# Altium schematic symbol library PDU.SchLib: 91 symbols (part 10 of 11)
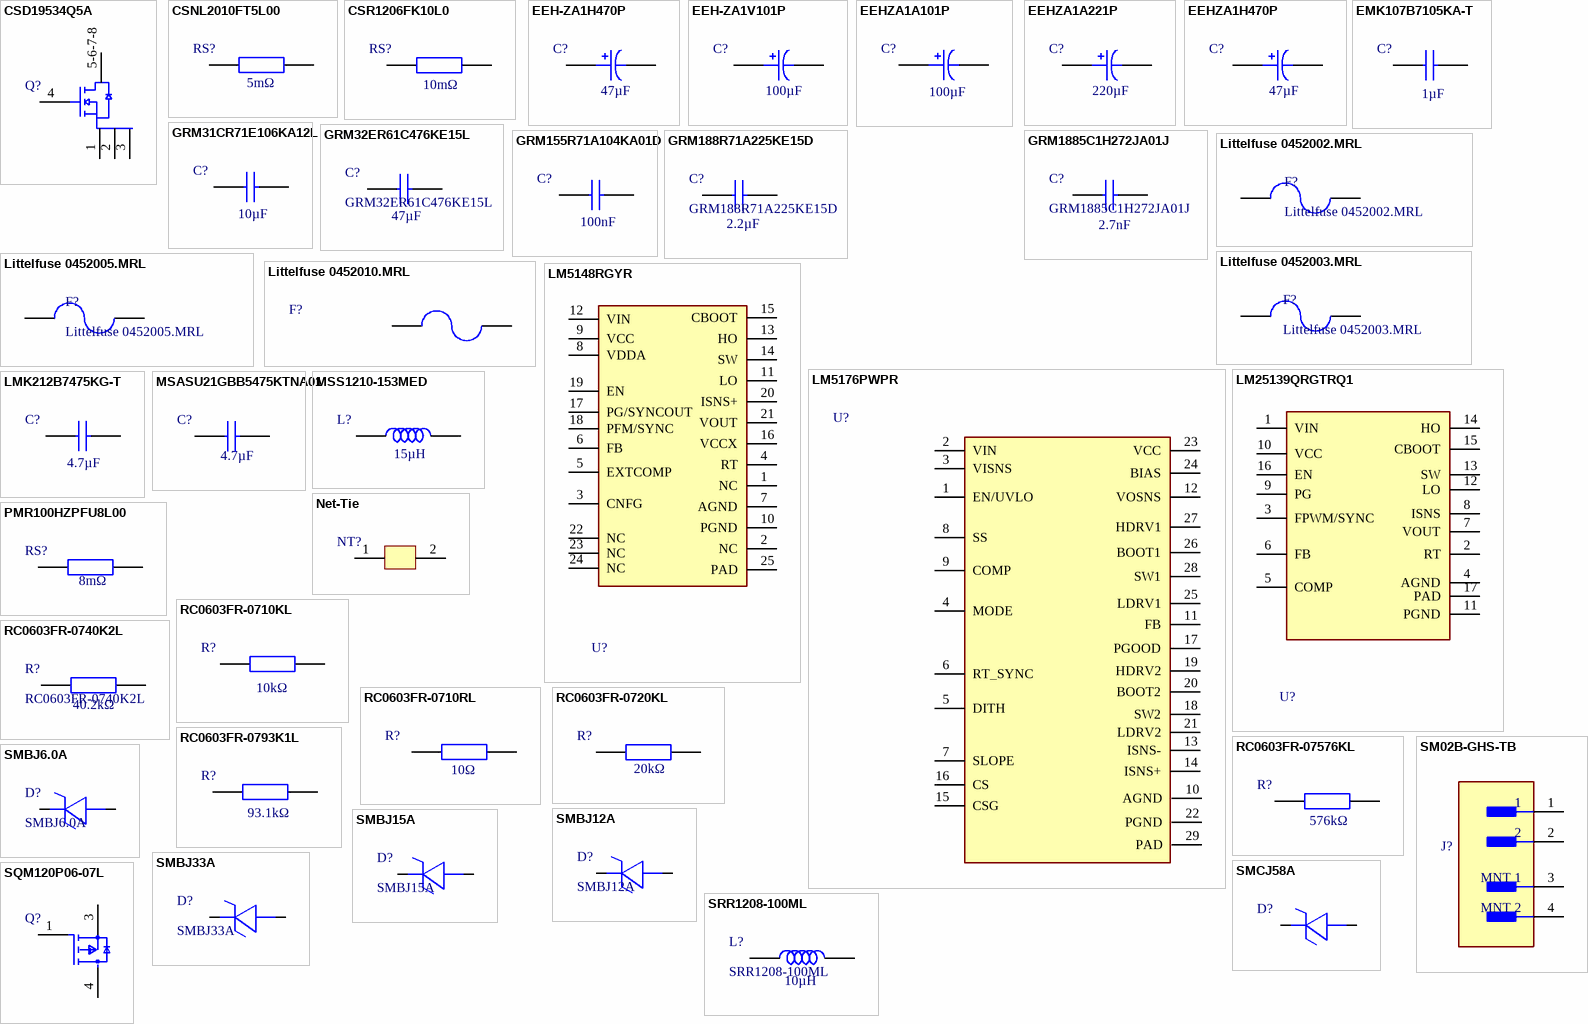
[diagram p11: symbols CSD19534Q5A to SRR1208-100ML]

## SMBJ12A
designator D?
SMBJ Series 19.9 V 0.6 kW Surface Mount Uni-Directional TVS Diode - DO-214AA; Manufacturer: Littelfuse; Breakdown Voltage: 14V; Clamping Voltage: 19.9V; Direction: Unidirectional; Element Configuration: Single; ESD Protection: Yes; Forward Voltage: 3.5V; Leakage Current: 1µA; Max Breakdown Voltage: 14.7V; Max Junction Temperature (Tj): 150°C; Max Power Dissipation: 5W; Max Surge Current: 30.2A; Min Breakdown Voltage: 13.3V; Number of Channels: 1; Operating Supply Voltage: 12V; Peak Pulse Power: 600W; Power Line Protection: No; Test Current: 1mA; Supplier: Farnell; Supplier Part Number: SMBJ12A; Manufacturer Part Number: SMBJ12A; RoHS: Compliant; Category: TVS Diodes; Stock: 3078; Pricing: 5=0,285, 10=0,191, 100=0,168, 500=0,145, 1000=0,122, 5000=0,0993 (EUR); Case/Package: SMB; China RoHS: Non-Compliant; Composition: Zener; Country of Origin: Mainland China, Philippines; Export Control Classification Number (ECCN) Code: EAR99; Height: 2.61mm; Harmonized Tariff Schedule (HTS) Code: 8541.10.00.50; Introduction Date: 1996-01-01; Lead Free: Lead Free; Length: 4.5466mm; Lifecycle Status: Production; Max Operating Temperature: 150°C; Max Reverse Leakage Current: 1µA; Min Operating Temperature: -65°C; Mounting Technology: Surface Mount; Number of Elements: 1; Pins: 2; Number of Terminals: 2; Number of Unidirectional Channels: 1; Packaging: Cut Tape; Peak Pulse Current: 30.2A; Peak Reverse Current: 1µA; Polarity: Unidirectional; Power Rating: 600W; Radiation Hardening: No; REACH SVHC: No; Reverse Breakdown Voltage: 13.3V; Reverse Standoff Voltage: 12V; Reverse Voltage: 12V; Schedule B: 8541100080, 8541100080|8541100080|8541100080|8541100080|8541100080|8541100080|8541100080|8541100080|8541100080|8541100080|8541100080|8541100080|8541100080|8541100080|8541100080|8541100080|8541100080|8541100080|8541100080|8541100080|8541100080|8541100080|8541100080|85; Termination: SMD/SMT; Voltage Rating (DC): 12V; Width: 3.937mm; ComponentLink1URL: https://datasheet.octopart.com:443/SMBJ12A-Littelfuse-datasheet-180609570.pdf?src-supplier=IHS; ComponentLink1Description: https://datasheet.octopart.com:443/SMBJ12A-Littelfuse-datasheet-180609570.pdf?src-supplier=IHS; ComponentLink2URL: https://datasheet.octopart.com:443/SMBJ12A-Littelfuse-datasheet-98958142.pdf?src-supplier=Burklin+Elektronik; ComponentLink2Description: https://datasheet.octopart.com:443/SMBJ12A-Littelfuse-datasheet-98958142.pdf?src-supplier=Burklin+Elektronik; ComponentLink3URL: https://datasheet.octopart.com:443/SMBJ12A-Littelfuse-datasheet-46975802.pdf?src-supplier=Burklin+Elektronik; ComponentLink3Description: https://datasheet.octopart.com:443/SMBJ12A-Littelfuse-datasheet-46975802.pdf?src-supplier=Burklin+Elektronik; ComponentLink4URL: https://datasheet.octopart.com:443/SMBJ12A-Littelfuse-datasheet-10854588.pdf?src-supplier=element14+APAC; ComponentLink4Description: https://datasheet.octopart.com:443/SMBJ12A-Littelfuse-datasheet-10854588.pdf?src-supplier=element14+APAC; ComponentLink5URL: https://datasheet.octopart.com:443/SMBJ12A-Littelfuse-datasheet-63710821.pdf?src-supplier=element14+APAC; ComponentLink5Description: https://datasheet.octopart.com:443/SMBJ12A-Littelfuse-datasheet-63710821.pdf?src-supplier=element14+APAC; ComponentLink6URL: https://datasheet.octopart.com:443/SMBJ12A-Littelfuse-datasheet-5319440.pdf?src-supplier=element14+APAC; ComponentLink6Description: https://datasheet.octopart.com:443/SMBJ12A-Littelfuse-datasheet-5319440.pdf?src-supplier=element14+APAC; ComponentLink7URL: https://datasheet.octopart.com:443/SMBJ12A-Littelfuse-datasheet-145017494.pdf?src-supplier=Farnell; ComponentLink7Description: https://datasheet.octopart.com:443/SMBJ12A-Littelfuse-datasheet-145017494.pdf?src-supplier=Farnell; ComponentLink8URL: https://datasheet.octopart.com:443/SMBJ12A-Littelfuse-datasheet-123574.pdf?src-supplier=Farnell; ComponentLink8Description: https://datasheet.octopart.com:443/SMBJ12A-Littelfuse-datasheet-123574.pdf?src-supplier=Farnell; ComponentLink9URL: https://datasheet.octopart.com:443/SMBJ12A-Littelfuse-datasheet-871.pdf?src-supplier=DigiKey; ComponentLink9Description: https://datasheet.octopart.com:443/SMBJ12A-Littelfuse-datasheet-871.pdf?src-supplier=DigiKey; ComponentLink10URL: https://datasheet.octopart.com:443/SMBJ12A-Littelfuse-datasheet-170904961.pdf?src-supplier=Future+Electronics; ComponentLink10Description: https://datasheet.octopart.com:443/SMBJ12A-Littelfuse-datasheet-170904961.pdf?src-supplier=Future+Electronics; ComponentLink11URL: https://datasheet.octopart.com:443/SMBJ12A-Littelfuse-datasheet-27889791.pdf?src-supplier=Fuses+Unlimited; ComponentLink11Description: https://datasheet.octopart.com:443/SMBJ12A-Littelfuse-datasheet-27889791.pdf?src-supplier=Fuses+Unlimited; ComponentLink12URL: https://datasheet.octopart.com:443/SMBJ12A-Littelfuse-datasheet-9813940.pdf?src-supplier=RS+(Formerly+Allied+Electronics); ComponentLink12Description: https://datasheet.octopart.com:443/SMBJ12A-Littelfuse-datasheet-9813940.pdf?src-supplier=RS+(Formerly+Allied+Electronics); ComponentLink13URL: https://datasheet.octopart.com:443/SMBJ12A-Littelfuse-datasheet-22888.pdf?src-supplier=RS+(Formerly+Allied+Electronics); ComponentLink13Description: https://datasheet.octopart.com:443/SMBJ12A-Littelfuse-datasheet-22888.pdf?src-supplier=RS+(Formerly+Allied+Electronics); ComponentLink14URL: https://datasheet.octopart.com:443/SMBJ12A-Littelfuse-datasheet-10521649.pdf?src-supplier=Jameco; ComponentLink14Description: https://datasheet.octopart.com:443/SMBJ12A-Littelfuse-datasheet-10521649.pdf?src-supplier=Jameco; ComponentLink15URL: https://datasheet.octopart.com:443/SMBJ12A-Littelfuse-datasheet-11045459.pdf?src-supplier=Newark; ComponentLink15Description: https://datasheet.octopart.com:443/SMBJ12A-Littelfuse-datasheet-11045459.pdf?src-supplier=Newark
footprint SMB (DO-214AA) (SMBJ15A-SMBJ33A-SMBJ12A-SMBJ6.0A)
pins: 1, 2

## SMBJ15A
designator D?
TVS Diode, SMBJ, Unidirectional, 15 V, 24.4 V, DO-214AA (SMB), 2 Pins; Manufacturer: Bourns; Breakdown Voltage: 17.6V; Clamping Voltage: 24.4V; Element Configuration: Single; ESD Protection: Yes; Leakage Current: 5µA; Max Breakdown Voltage: 18.5V; Max Junction Temperature (Tj): 150°C; Max Power Dissipation: 5W; Max Surge Current: 100A; Min Breakdown Voltage: 16.7V; Number of Channels: 1; Peak Pulse Current: 24.6A; Peak Pulse Power: 600W; Power Line Protection: No; Reverse Standoff Voltage: 15V; Test Current: 1mA; Supplier: Arrow Electronics; Supplier Part Number: SMBJ15A; Manufacturer Part Number: SMBJ15A; RoHS: Compliant; Category: TVS Diodes; Stock: 36000; Pricing: 3000=0,0852 (USD); Case/Package: SMB; China RoHS: Non-Compliant; Composition: Zener; Country of Origin: Taiwan; Direction: Unidirectional; Export Control Classification Number (ECCN) Code: EAR99; Height: 2.44mm; Harmonized Tariff Schedule (HTS) Code: 8541.10.00.50; Introduction Date: 2010-02-23; Length: 4.57mm; Lifecycle Status: Production; Max Operating Temperature: 150°C; Max Reverse Leakage Current: 5µA; Min Operating Temperature: -55°C; Mounting Technology: Surface Mount; Number of Elements: 1; Pins: 2; Number of Terminals: 2; Number of Unidirectional Channels: 1; Packaging: Tape & Reel; Polarity: Unidirectional; Power Rating: 600W; Radiation Hardening: No; REACH SVHC: No; Reverse Breakdown Voltage: 16.7V; Schedule B: 8541100080; Termination: SMD/SMT; Width: 3.94mm; ComponentLink1URL: https://datasheet.octopart.com:443/SMBJ15A-Bourns-datasheet-179980059.pdf?src-supplier=TME; ComponentLink1Description: https://datasheet.octopart.com:443/SMBJ15A-Bourns-datasheet-179980059.pdf?src-supplier=TME; ComponentLink2URL: https://datasheet.octopart.com:443/SMBJ15A-Bourns-datasheet-12567566.pdf?src-supplier=Burklin+Elektronik; ComponentLink2Description: https://datasheet.octopart.com:443/SMBJ15A-Bourns-datasheet-12567566.pdf?src-supplier=Burklin+Elektronik; ComponentLink3URL: https://datasheet.octopart.com:443/SMBJ15A-Bourns-datasheet-165058450.pdf?src-supplier=Burklin+Elektronik; ComponentLink3Description: https://datasheet.octopart.com:443/SMBJ15A-Bourns-datasheet-165058450.pdf?src-supplier=Burklin+Elektronik; ComponentLink4URL: https://datasheet.octopart.com:443/SMBJ15A-Bourns-datasheet-94099898.pdf?src-supplier=element14+APAC; ComponentLink4Description: https://datasheet.octopart.com:443/SMBJ15A-Bourns-datasheet-94099898.pdf?src-supplier=element14+APAC; ComponentLink5URL: https://datasheet.octopart.com:443/SMBJ15A-Bourns-datasheet-34433208.pdf?src-supplier=Newark; ComponentLink5Description: https://datasheet.octopart.com:443/SMBJ15A-Bourns-datasheet-34433208.pdf?src-supplier=Newark; ComponentLink6URL: https://datasheet.octopart.com:443/SMBJ15A-Bourns-datasheet-154729896.pdf?src-supplier=Electro+Sonic; ComponentLink6Description: https://datasheet.octopart.com:443/SMBJ15A-Bourns-datasheet-154729896.pdf?src-supplier=Electro+Sonic; ComponentLink7URL: https://datasheet.octopart.com:443/SMBJ15A-Bourns-datasheet-10292148.pdf?src-supplier=element14; ComponentLink7Description: https://datasheet.octopart.com:443/SMBJ15A-Bourns-datasheet-10292148.pdf?src-supplier=element14; ComponentLink8URL: https://datasheet.octopart.com:443/SMBJ15A-Bourns-datasheet-42429174.pdf?src-supplier=RS+(Formerly+Allied+Electronics); ComponentLink8Description: https://datasheet.octopart.com:443/SMBJ15A-Bourns-datasheet-42429174.pdf?src-supplier=RS+(Formerly+Allied+Electronics); ComponentLink9URL: https://datasheet.octopart.com:443/SMBJ15A-Bourns-datasheet-14047909.pdf?src-supplier=iiiC; ComponentLink9Description: https://datasheet.octopart.com:443/SMBJ15A-Bourns-datasheet-14047909.pdf?src-supplier=iiiC; ComponentLink10URL: http://sigma.octopart.com:80/conflict_mineral_statement/Bourns-company-36.pdf?src-supplier=Compliance+Statements; ComponentLink10Description: http://sigma.octopart.com:80/conflict_mineral_statement/Bourns-company-36.pdf?src-supplier=Compliance+Statements
footprint SMB (DO-214AA) (SMBJ15A-SMBJ33A-SMBJ12A-SMBJ6.0A)
pins: 1, 2

## SMBJ33A
designator D?
SMBJ Series 53.3 V 0.6 kW Surface Mount Uni-Directional TVS Diode - DO-214AA; Manufacturer: Littelfuse; Breakdown Voltage: 38.65V; Clamping Voltage: 53.3V; Direction: Unidirectional; Element Configuration: Single; Forward Voltage: 3.5V; Leakage Current: 1µA; Max Breakdown Voltage: 40.6V; Max Junction Temperature (Tj): 150°C; Max Power Dissipation: 5W; Max Surge Current: 11.3A; Min Breakdown Voltage: 36.7V; Number of Channels: 1; Operating Supply Voltage: 33V; Peak Pulse Power: 600W; Power Line Protection: No; Test Current: 1mA; Supplier: Farnell; Supplier Part Number: SMBJ33A; Manufacturer Part Number: SMBJ33A; RoHS: Compliant; Category: TVS Diodes; Stock: 4121; Pricing: 5=0,26, 10=0,175, 100=0,158, 500=0,14, 1000=0,123, 5000=0,105 (EUR); Case/Package: SMB; China RoHS: Non-Compliant; Composition: Zener; Country of Origin: Mainland China, Philippines; Export Control Classification Number (ECCN) Code: EAR99; Height: 2.61mm; Harmonized Tariff Schedule (HTS) Code: 8541.10.00.50; Introduction Date: 1996-01-01; Lead Free: Lead Free; Length: 4.57mm; Lifecycle Status: Production; Max Operating Temperature: 150°C; Max Reverse Leakage Current: 1µA; Min Operating Temperature: -65°C; Mounting Technology: Surface Mount; Number of Elements: 1; Pins: 2; Number of Terminals: 2; Number of Unidirectional Channels: 1; Packaging: Tape & Reel; Peak Pulse Current: 11.3A; Peak Reverse Current: 1µA; Polarity: Unidirectional; Power Rating: 600W; Radiation Hardening: No; REACH SVHC: No; Reverse Breakdown Voltage: 36.7V; Reverse Standoff Voltage: 33V; Reverse Voltage: 33V; Schedule B: 8541100080, 8541100080|8541100080|8541100080|8541100080|8541100080|8541100080|8541100080|8541100080|8541100080|8541100080|8541100080|8541100080|8541100080|8541100080|8541100080|8541100080|8541100080|8541100080|8541100080|8541100080|8541100080|8541100080|8541100080|85; Termination: SMD/SMT; Voltage Rating (DC): 33V; Width: 3.94mm; ComponentLink1URL: https://datasheet.octopart.com:443/SMBJ33A-Littelfuse-datasheet-180609570.pdf?src-supplier=IHS; ComponentLink1Description: https://datasheet.octopart.com:443/SMBJ33A-Littelfuse-datasheet-180609570.pdf?src-supplier=IHS; ComponentLink2URL: https://datasheet.octopart.com:443/SMBJ33A-Littelfuse-datasheet-98958142.pdf?src-supplier=Littelfuse+SCT; ComponentLink2Description: https://datasheet.octopart.com:443/SMBJ33A-Littelfuse-datasheet-98958142.pdf?src-supplier=Littelfuse+SCT; ComponentLink3URL: https://datasheet.octopart.com:443/SMBJ33A-Littelfuse-datasheet-10854588.pdf?src-supplier=element14+APAC; ComponentLink3Description: https://datasheet.octopart.com:443/SMBJ33A-Littelfuse-datasheet-10854588.pdf?src-supplier=element14+APAC; ComponentLink4URL: https://datasheet.octopart.com:443/SMBJ33A-Littelfuse-datasheet-5319440.pdf?src-supplier=element14+APAC; ComponentLink4Description: https://datasheet.octopart.com:443/SMBJ33A-Littelfuse-datasheet-5319440.pdf?src-supplier=element14+APAC; ComponentLink5URL: https://datasheet.octopart.com:443/SMBJ33A-Littelfuse-datasheet-145017494.pdf?src-supplier=Farnell; ComponentLink5Description: https://datasheet.octopart.com:443/SMBJ33A-Littelfuse-datasheet-145017494.pdf?src-supplier=Farnell; ComponentLink6URL: https://datasheet.octopart.com:443/SMBJ33A-Littelfuse-datasheet-63710821.pdf?src-supplier=Farnell; ComponentLink6Description: https://datasheet.octopart.com:443/SMBJ33A-Littelfuse-datasheet-63710821.pdf?src-supplier=Farnell; ComponentLink7URL: https://datasheet.octopart.com:443/SMBJ33A-Littelfuse-datasheet-170904961.pdf?src-supplier=Future+Electronics; ComponentLink7Description: https://datasheet.octopart.com:443/SMBJ33A-Littelfuse-datasheet-170904961.pdf?src-supplier=Future+Electronics; ComponentLink8URL: https://datasheet.octopart.com:443/SMBJ33A-Littelfuse-datasheet-27889791.pdf?src-supplier=Fuses+Unlimited; ComponentLink8Description: https://datasheet.octopart.com:443/SMBJ33A-Littelfuse-datasheet-27889791.pdf?src-supplier=Fuses+Unlimited; ComponentLink9URL: https://datasheet.octopart.com:443/SMBJ33A-Littelfuse-datasheet-871.pdf?src-supplier=DigiKey; ComponentLink9Description: https://datasheet.octopart.com:443/SMBJ33A-Littelfuse-datasheet-871.pdf?src-supplier=DigiKey
footprint SMB (DO-214AA) (SMBJ15A-SMBJ33A-SMBJ12A-SMBJ6.0A)
pins: 1, 2

## SMCJ58A
designator D?  (value not drawn)
Diode TVS Single Uni-Directional 58V 1.5kW 2-Pin DO-214AB; Manufacturer: Taiwan Semiconductor; Manufacturer Lifecycle Status: ACTIVE; Breakdown Voltage: 67.8V; Clamping Voltage: 93.6V; Forward Voltage: 1V; Max Breakdown Voltage: 71.2V; Max Forward Surge Current (Ifsm): 2.5A; Max Junction Temperature (Tj): 150°C; Max Power Dissipation: 5W; Max Repetitive Reverse Voltage (Vrrm): 250V; Max Reverse Leakage Current: 1µA; Max Surge Current: 200A; Min Breakdown Voltage: 64.4V; Number of Channels: 1; Peak Pulse Current: 16A; Polarity: Unidirectional; Power Dissipation: 200mW; Reverse Recovery Time: 50ns; Supplier: Farnell; Supplier Part Number: SMCJ58A; Manufacturer Part Number: SMCJ58A; RoHS: Compliant; Category: TVS Diodes; Stock: 274; Pricing: 1=0,594, 10=0,49, 100=0,342, 500=0,331, 1000=0,32, 5000=0,309 (EUR); China RoHS: Non-Compliant; Country of Origin: Mainland China, Taiwan; Export Control Classification Number (ECCN) Code: EAR99; Height: 2.62mm; Harmonized Tariff Schedule (HTS) Code: 8541.10.00.50; Introduction Date: 1998-01-21; Lead Free: Lead Free; Length: 7.11mm; Lifecycle Status: Production; Max Operating Temperature: 150°C; Min Operating Temperature: -55°C; Number of Elements: 1; Pins: 2; Number of Terminals: 2; Operating Supply Voltage: 58V; Peak Pulse Power: 1.5kW; Power Rating: 1.5kW; REACH SVHC: No; Reverse Standoff Voltage: 58V; Schedule B: 8541100080; Voltage Rating (DC): 58V; Width: 6.22mm; ComponentLink1URL: https://datasheet.octopart.com:443/SMCJ58A-Taiwan-Semiconductor-datasheet-151942226.pdf?src-supplier=TME; ComponentLink1Description: https://datasheet.octopart.com:443/SMCJ58A-Taiwan-Semiconductor-datasheet-151942226.pdf?src-supplier=TME; ComponentLink2URL: https://datasheet.octopart.com:443/SMCJ58A-Taiwan-Semiconductor-datasheet-181551142.pdf?src-supplier=IHS; ComponentLink2Description: https://datasheet.octopart.com:443/SMCJ58A-Taiwan-Semiconductor-datasheet-181551142.pdf?src-supplier=IHS; ComponentLink3URL: https://datasheet.octopart.com:443/SMCJ58A-Taiwan-Semiconductor-datasheet-182396156.pdf?src-supplier=IHS; ComponentLink3Description: https://datasheet.octopart.com:443/SMCJ58A-Taiwan-Semiconductor-datasheet-182396156.pdf?src-supplier=IHS; ComponentLink4URL: https://datasheet.octopart.com:443/SMCJ58A-Taiwan-Semiconductor-datasheet-180789152.pdf?src-supplier=IHS; ComponentLink4Description: https://datasheet.octopart.com:443/SMCJ58A-Taiwan-Semiconductor-datasheet-180789152.pdf?src-supplier=IHS; ComponentLink5URL: https://datasheet.octopart.com:443/SMCJ58A-Taiwan-Semiconductor-datasheet-137249697.pdf?src-supplier=Taiwan+Semiconductor; ComponentLink5Description: https://datasheet.octopart.com:443/SMCJ58A-Taiwan-Semiconductor-datasheet-137249697.pdf?src-supplier=Taiwan+Semiconductor; ComponentLink6URL: https://datasheet.octopart.com:443/SMCJ58A-Taiwan-Semiconductor-datasheet-34355355.pdf?src-supplier=Taiwan+Semiconductor; ComponentLink6Description: https://datasheet.octopart.com:443/SMCJ58A-Taiwan-Semiconductor-datasheet-34355355.pdf?src-supplier=Taiwan+Semiconductor; ComponentLink7URL: https://datasheet.octopart.com:443/SMCJ58A-Taiwan-Semiconductor-datasheet-65933527.pdf?src-supplier=Future+Electronics; ComponentLink7Description: https://datasheet.octopart.com:443/SMCJ58A-Taiwan-Semiconductor-datasheet-65933527.pdf?src-supplier=Future+Electronics
footprint SMC (DO-214AB) (SMCJ58A)
pins: 1, 2

## SQM120P06-07L
designator Q?  (value not drawn)
MOSFET P-CH 60V 120A TO263 / Trans MOSFET P-CH 60V 120A Automotive 3-Pin(2+Tab) D2PAK; Manufacturer: Vishay; Manufacturer Part Number: SQM120P06-07L_GE3; Drain to Source Breakdown Voltage: -60V; Drain to Source Resistance: 6.7mΩ; Element Configuration: Single; Fall Time: 32ns; Gate to Source Voltage (Vgs): 20V; Input Capacitance: 14.28nF; Max Junction Temperature (Tj): 175°C; Max Power Dissipation: 375W; Number of Channels: 1; Rise Time: 23ns; Threshold Voltage: -2V; Turn-Off Delay Time: 97ns; Turn-On Delay Time: 15ns; Supplier: Farnell; Supplier Part Number: SQM120P06-07L_GE3; RoHS: Compliant; Category: MOSFETs; Stock: 2376; Pricing: 1=4,9, 10=3,2, 100=2,51, 500=2,1, 1000=2,06 (EUR); Case/Package: TO-263; Continuous Drain Current (ID): 120A; Drain to Source Voltage (Vdss): -60V; Export Control Classification Number (ECCN) Code: EAR99; Height: 5.08mm; Introduction Date: 2010-09-09; Lead Free: Lead Free; Lifecycle Status: Production; Max Operating Temperature: 175°C; Min Breakdown Voltage: 60V; Min Operating Temperature: -55°C; Mounting Technology: Surface Mount; Number of Elements: 1; Pins: 3; Number of Terminals: 2; Packaging: Tape & Reel; Power Dissipation: 375W; Radiation Hardening: No; Rds On Max: 6.7mΩ; REACH SVHC: No; Schedule B: 8541290080, 8541290080|8541290080|8541290080|8541290080|8541290080; Weight: 1.946308g; ComponentLink1URL: https://datasheet.octopart.com:443/SQM120P06-07L_GE3-Vishay-datasheet-181368167.pdf?src-supplier=IHS; ComponentLink1Description: https://datasheet.octopart.com:443/SQM120P06-07L_GE3-Vishay-datasheet-181368167.pdf?src-supplier=IHS; ComponentLink2URL: https://datasheet.octopart.com:443/SQM120P06-07L_GE3-Vishay-datasheet-58971610.pdf?src-supplier=Upverter; ComponentLink2Description: https://datasheet.octopart.com:443/SQM120P06-07L_GE3-Vishay-datasheet-58971610.pdf?src-supplier=Upverter; ComponentLink3URL: https://datasheet.octopart.com:443/SQM120P06-07L_GE3-Vishay-datasheet-66078331.pdf?src-supplier=Newark; ComponentLink3Description: https://datasheet.octopart.com:443/SQM120P06-07L_GE3-Vishay-datasheet-66078331.pdf?src-supplier=Newark; ComponentLink4URL: https://datasheet.octopart.com:443/SQM120P06-07L_GE3-Vishay-datasheet-182431440.pdf?src-supplier=Future+Electronics; ComponentLink4Description: https://datasheet.octopart.com:443/SQM120P06-07L_GE3-Vishay-datasheet-182431440.pdf?src-supplier=Future+Electronics; ComponentLink5URL: http://sigma.octopart.com:80/rohs_statement/Vishay-company-15.pdf?src-supplier=Compliance+Statements; ComponentLink5Description: http://sigma.octopart.com:80/rohs_statement/Vishay-company-15.pdf?src-supplier=Compliance+Statements
footprint D2PAK (SQM120P06-07L)
pins: 1 G, 3 S, 4 D

## SRR1208-100ML
designator L?  value 10µH
Inductor Power Shielded Wirewound 10uH 20% 1KHz 20Q-Factor Ferrite 5A 0.021Ohm DCR T/R; Manufacturer: Bourns; DC Resistance (DCR): 21mΩ; Frequency: 15MHz; Material: Steel; Number of Circuits: 1; Q Factor: 20; Saturation Current: 6.7A; Supplier: Farnell; Supplier Part Number: SRR1208-100ML; Manufacturer Part Number: SRR1208-100ML; RoHS: Compliant; Category: Fixed Inductors; Stock: 4863; Pricing: 1=0,771, 10=0,653, 50=0,619, 100=0,551, 200=0,54 (EUR); Case/Package: 5050; China RoHS: Compliant; Composition: Wirewound; Core Material: Ferrite; Country of Origin: Mainland China; Current Rating: 5A; DC Current: 5A; Depth: 13mm; Export Control Classification Number (ECCN) Code: EAR99; Height: 8.5mm; Height - Seated (Max): 8.509mm; Harmonized Tariff Schedule (HTS) Code: 8504.50.80.00; Inductance Tolerance: 20%; Introduction Date: 2004-11-10; Length: 12.7mm; Lifecycle Status: Production; Max Current Rating: 5A; Max DC Current: 5A; Max Operating Temperature: 125°C; Military Standard: Not; Min Operating Temperature: -40°C; Mounting Technology: Surface Mount; Pins: 2; Number of Terminals: 2; REACH SVHC: Yes; Schedule B: 8504500000, 8504500000|8504500000, 8504500000|8504500000|8504500000, 8504500000|8504500000|8504500000|8504500000; Self Resonant Frequency: 15MHz; Shielding: Shielded; Termination: SMD/SMT; Test Frequency: 1kHz; Tolerance: 20%; Width: 12.7mm; ComponentLink1URL: https://datasheet.octopart.com:443/SRR1208-100ML-Bourns-datasheet-154729978.pdf?src-supplier=Newark; ComponentLink1Description: https://datasheet.octopart.com:443/SRR1208-100ML-Bourns-datasheet-154729978.pdf?src-supplier=Newark; ComponentLink2URL: https://datasheet.octopart.com:443/SRR1208-100ML-Bourns-datasheet-68307255.pdf?src-supplier=Newark; ComponentLink2Description: https://datasheet.octopart.com:443/SRR1208-100ML-Bourns-datasheet-68307255.pdf?src-supplier=Newark; ComponentLink3URL: https://datasheet.octopart.com:443/SRR1208-100ML-Bourns-datasheet-99355712.pdf?src-supplier=Newark; ComponentLink3Description: https://datasheet.octopart.com:443/SRR1208-100ML-Bourns-datasheet-99355712.pdf?src-supplier=Newark; ComponentLink4URL: https://datasheet.octopart.com:443/SRR1208-100ML-Bourns-datasheet-5459063.pdf?src-supplier=Newark; ComponentLink4Description: https://datasheet.octopart.com:443/SRR1208-100ML-Bourns-datasheet-5459063.pdf?src-supplier=Newark; ComponentLink5URL: https://datasheet.octopart.com:443/SRR1208-100ML-Bourns-datasheet-11548354.pdf?src-supplier=Farnell; ComponentLink5Description: https://datasheet.octopart.com:443/SRR1208-100ML-Bourns-datasheet-11548354.pdf?src-supplier=Farnell; ComponentLink6URL: https://datasheet.octopart.com:443/SRR1208-100ML-Bourns-datasheet-62333742.pdf?src-supplier=Farnell; ComponentLink6Description: https://datasheet.octopart.com:443/SRR1208-100ML-Bourns-datasheet-62333742.pdf?src-supplier=Farnell; ComponentLink7URL: https://datasheet.octopart.com:443/SRR1208-100ML-Bourns-datasheet-41338362.pdf?src-supplier=RS+(Formerly+Allied+Electronics); ComponentLink7Description: https://datasheet.octopart.com:443/SRR1208-100ML-Bourns-datasheet-41338362.pdf?src-supplier=RS+(Formerly+Allied+Electronics); ComponentLink8URL: https://datasheet.octopart.com:443/SRR1208-100ML-Bourns-datasheet-37486976.pdf?src-supplier=RS+(Formerly+Allied+Electronics); ComponentLink8Description: https://datasheet.octopart.com:443/SRR1208-100ML-Bourns-datasheet-37486976.pdf?src-supplier=RS+(Formerly+Allied+Electronics); ComponentLink9URL: https://datasheet.octopart.com:443/SRR1208-100ML-Bourns-datasheet-56155.pdf?src-supplier=RS+(Formerly+Allied+Electronics); ComponentLink9Description: https://datasheet.octopart.com:443/SRR1208-100ML-Bourns-datasheet-56155.pdf?src-supplier=RS+(Formerly+Allied+Electronics); ComponentLink10URL: http://sigma.octopart.com:80/conflict_mineral_statement/Bourns-company-36.pdf?src-supplier=Compliance+Statements; ComponentLink10Description: http://sigma.octopart.com:80/conflict_mineral_statement/Bourns-company-36.pdf?src-supplier=Compliance+Statements
footprint SRR1208 (SRR1208-100ML)
pins: 1, 2

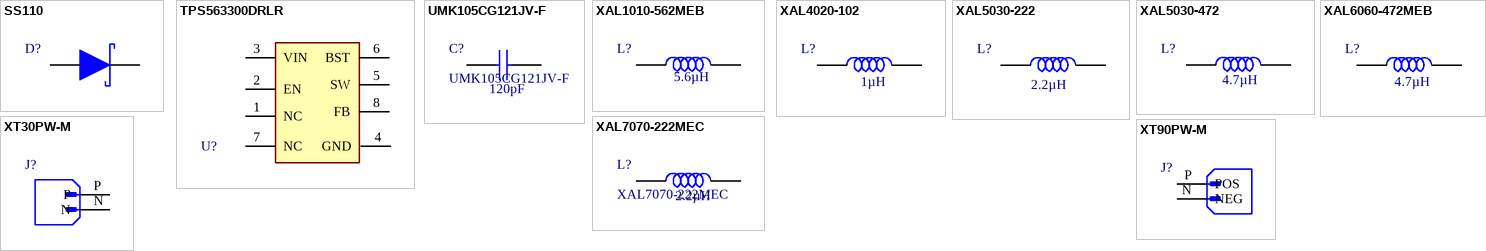
[diagram p2: symbols SS110 to XT90PW-M]

## SS110
designator D?  (value not drawn)
Rectifier Diode, Schottky, 1 Phase, 1 Element, 1A, 100V V(RRM), Silicon; Manufacturer: Taiwan Semiconductor; Manufacturer Lifecycle Status: ACTIVE; Forward Voltage: 800mV; Max Forward Surge Current (Ifsm): 40A; Max Junction Temperature (Tj): 150°C; Max Reverse Leakage Current: 100µA; Number of Elements: 1; Power Dissipation: 400mW; Reverse Recovery Time: 25ns; Supplier: Farnell; Supplier Part Number: SS110; Manufacturer Part Number: SS110; RoHS: Compliant; Category: Schottky Diodes; Stock: 13064; Pricing: 5=0,296, 10=0,19, 100=0,124, 500=0,0917, 1000=0,0726, 5000=0,064 (EUR); Case/Package: SMD/SMT; China RoHS: Non-Compliant; Contact Plating: Tin; Country of Origin: Mainland China, Taiwan; Export Control Classification Number (ECCN) Code: EAR99; Forward Current: 1A; Harmonized Tariff Schedule (HTS) Code: 8541.10.00.80; Introduction Date: 1998-08-01; Lifecycle Status: Production; Max Operating Temperature: 150°C; Max Output current: 1A; Max Repetitive Reverse Voltage (Vrrm): 100V; Min Breakdown Voltage: 100V; Min Operating Temperature: -65°C; Number of Terminals: 2; Packaging: Cut Tape; Peak Reverse Current: 100µA; REACH SVHC: No; Reverse Standoff Voltage: 100V; ComponentLink1URL: https://datasheet.octopart.com:443/SS110-Taiwan-Semiconductor-datasheet-179284502.pdf?src-supplier=IHS; ComponentLink1Description: https://datasheet.octopart.com:443/SS110-Taiwan-Semiconductor-datasheet-179284502.pdf?src-supplier=IHS; ComponentLink2URL: https://datasheet.octopart.com:443/SS110-Taiwan-Semiconductor-datasheet-181551144.pdf?src-supplier=IHS; ComponentLink2Description: https://datasheet.octopart.com:443/SS110-Taiwan-Semiconductor-datasheet-181551144.pdf?src-supplier=IHS; ComponentLink3URL: https://datasheet.octopart.com:443/SS110-Taiwan-Semiconductor-datasheet-180789182.pdf?src-supplier=IHS; ComponentLink3Description: https://datasheet.octopart.com:443/SS110-Taiwan-Semiconductor-datasheet-180789182.pdf?src-supplier=IHS; ComponentLink4URL: https://datasheet.octopart.com:443/SS110-Taiwan-Semiconductor-datasheet-68472387.pdf?src-supplier=Taiwan+Semiconductor; ComponentLink4Description: https://datasheet.octopart.com:443/SS110-Taiwan-Semiconductor-datasheet-68472387.pdf?src-supplier=Taiwan+Semiconductor; ComponentLink5URL: https://datasheet.octopart.com:443/SS110-Taiwan-Semiconductor-datasheet-34355587.pdf?src-supplier=Taiwan+Semiconductor; ComponentLink5Description: https://datasheet.octopart.com:443/SS110-Taiwan-Semiconductor-datasheet-34355587.pdf?src-supplier=Taiwan+Semiconductor; ComponentLink6URL: https://datasheet.octopart.com:443/SS110-Taiwan-Semiconductor-datasheet-152739498.pdf?src-supplier=ODG+(Origin+Data+Global); ComponentLink6Description: https://datasheet.octopart.com:443/SS110-Taiwan-Semiconductor-datasheet-152739498.pdf?src-supplier=ODG+(Origin+Data+Global); ComponentLink7URL: https://datasheet.octopart.com:443/SS110-Taiwan-Semiconductor-datasheet-13727340.pdf?src-supplier=Farnell; ComponentLink7Description: https://datasheet.octopart.com:443/SS110-Taiwan-Semiconductor-datasheet-13727340.pdf?src-supplier=Farnell; ComponentLink8URL: https://datasheet.octopart.com:443/SS110-Taiwan-Semiconductor-datasheet-510275.pdf?src-supplier=Newark; ComponentLink8Description: https://datasheet.octopart.com:443/SS110-Taiwan-Semiconductor-datasheet-510275.pdf?src-supplier=Newark
footprint SS110 (3)
pins: 1 Cathode (power), 2 Anode (power)

## TPS563300DRLR
designator U?  (value not drawn)
3.8-V to 28-V Input, 3-A synchronous buck converter in SOT-583 package 8-SOT-5X3 -40 to 150; Manufacturer: Texas Instruments; Manufacturer Lifecycle Status: ACTIVE; Supplier: Mouser; Supplier Part Number: 595-TPS563300DRLR; Manufacturer Part Number: TPS563300DRLR; RoHS: Compliant; Category: Voltage Regulators - Switching; Stock: 32724; Pricing: 1=1,32, 10=0,956, 50=0,864, 100=0,762, 1000=0,605, 10000=0,531 (USD); Height: 0m; Length: 2.1mm; Lifecycle Status: Production; Pins: 8; Thickness: 550µm; Topology: Buck; Width: 1.2mm; ComponentLink1URL: https://sigma.octopart.com:443/184160452/technical_drawing/Texas-Instruments-TPS563300DRLR.pdf?src-supplier=Texas+Instruments; ComponentLink1Description: https://sigma.octopart.com:443/184160452/technical_drawing/Texas-Instruments-TPS563300DRLR.pdf?src-supplier=Texas+Instruments; ComponentLink2URL: https://octopart.com:443/opatz8j6/c1?t=xatpEYDGIma3GWOGr9dSa4ETkpKnF2SQQa13bM9aBU7KxWKWjVvMG3OPAuux2PU110RkBH42izBS6LQikCKLapn2aXxzoaBnKyQv6nxenhgHckViipDy1bQp576I8K_6VNlc5vIfTlftyYntTgTTchaaEZUGX-QlB6H4FcZbf9QiACksJe2cvrVzl7ha9aT0dFxNxtO1rifgiUUvS9aKQPq8xHoc_jRZa0IMvCz_1WpyurF6xnm4nw4x1HnPVrE7nKBo3o6VYz8s45vJQula6-TlgbN471KnlcUrcyjw7J9yvMadwJHAulvEz1WOv1H4BbQVsLOSbcIeQMVCaHMcaU52k2MGaSgAor6JMwICFe1qviFLaeeRGWmBODRvWzrX-l5DBmed0Tw&src-supplier=Texas+Instruments; ComponentLink2Description: https://octopart.com:443/opatz8j6/c1?t=xatpEYDGIma3GWOGr9dSa4ETkpKnF2SQQa13bM9aBU7KxWKWjVvMG3OPAuux2PU110RkBH42izBS6LQikCKLapn2aXxzoaBnKyQv6nxenhgHckViipDy1bQp576I8K_6VNlc5vIfTlftyYntTgTTchaaEZUGX-QlB6H4FcZbf9QiACksJe2cvrVzl7ha9aT0dFxNxtO1rifgiUUvS9aKQPq8xHoc_jRZa0IMvCz_1WpyurF6xnm4nw4x1HnPVrE7nKBo3o6VYz8s45vJQula6-TlgbN471KnlcUrcyjw7J9yvMadwJHAulvEz1WOv1H4BbQVsLOSbcIeQMVCaHMcaU52k2MGaSgAor6JMwICFe1qviFLaeeRGWmBODRvWzrX-l5DBmed0Tw&src-supplier=Texas+Instruments; ComponentLink3URL: https://sigma.octopart.com:443/182665545/technical_drawing/Texas-Instruments-TPS563300DRLR.pdf?src-supplier=Texas+Instruments; ComponentLink3Description: https://sigma.octopart.com:443/182665545/technical_drawing/Texas-Instruments-TPS563300DRLR.pdf?src-supplier=Texas+Instruments; ComponentLink4URL: https://sigma.octopart.com:443/158891806/technical_drawing/Texas-Instruments-TPS563300DRLR.pdf?src-supplier=Texas+Instruments; ComponentLink4Description: https://sigma.octopart.com:443/158891806/technical_drawing/Texas-Instruments-TPS563300DRLR.pdf?src-supplier=Texas+Instruments; ComponentLink5URL: https://datasheet.octopart.com:443/TPS563300DRLR-Texas-Instruments-datasheet-179559971.pdf?src-supplier=LCSC; ComponentLink5Description: https://datasheet.octopart.com:443/TPS563300DRLR-Texas-Instruments-datasheet-179559971.pdf?src-supplier=LCSC; ComponentLink6URL: http://sigma.octopart.com:80/reach_statement/Texas-Instruments-company-64.pdf?src-supplier=Compliance+Statements; ComponentLink6Description: http://sigma.octopart.com:80/reach_statement/Texas-Instruments-company-64.pdf?src-supplier=Compliance+Statements; ComponentLink7URL: http://sigma.octopart.com:80/conflict_mineral_statement/Texas-Instruments-company-63.pdf?src-supplier=Compliance+Statements; ComponentLink7Description: http://sigma.octopart.com:80/conflict_mineral_statement/Texas-Instruments-company-63.pdf?src-supplier=Compliance+Statements
footprint SOT-583-8 (TPS563300DRLR)
pins: 1 NC, 2 EN, 3 VIN, 4 GND, 5 SW, 6 BST, 7 NC, 8 FB

## UMK105CG121JV-F
designator C?  value 120pF
Multilayer Ceramic Capacitors 120pF 50V C0G 5% SMD 0402; Manufacturer: TAIYO YUDEN; Temperature Coefficient: 30ppm/°C; Supplier: Future Electronics; Supplier Part Number: UMK105CG121JV-F; Manufacturer Part Number: UMK105CG121JV-F; RoHS: Compliant; Category: Ceramic Capacitors; Stock: 10000; Pricing: 10000=0,0057, 30000=0,0055, 50000=0,0055, 150000=0,0053, 250000=0,0052 (USD); Case/Package: 0402; Case Code (Imperial): 0402; Case Code (Metric): 1005; Depth: 500µm; Dielectric: C0G; Dielectric Material: Ceramic; Halogen Free: Halogen Free; Height: 500µm; Lead Free: Lead Free; Length: 1mm; Lifecycle Status: Production; Max Length: 1.05mm; Max Operating Temperature: 125°C; Max Thickness: 550µm; Max Width: 550µm; Min Length: 950µm; Min Operating Temperature: -55°C; Min Thickness: 450µm; Min Width: 450µm; Mounting Technology: Surface Mount; Pins: 2; Number of Terminals: 2; Packaging: Cut Tape; Radiation Hardening: No; REACH SVHC: Yes; Termination: SMD/SMT; Thickness: 558.8µm; Tolerance: 5%; Voltage Rating: 50V; Voltage Rating (DC): 50V; Width: 500µm; ComponentLink1URL: https://datasheet.octopart.com:443/UMK105CG121JV-F-Taiyo-Yuden-datasheet-182134298.pdf?src-supplier=IHS; ComponentLink1Description: https://datasheet.octopart.com:443/UMK105CG121JV-F-Taiyo-Yuden-datasheet-182134298.pdf?src-supplier=IHS; ComponentLink2URL: https://datasheet.octopart.com:443/UMK105CG121JV-F-Taiyo-Yuden-datasheet-154810152.pdf?src-supplier=JRH+Electronics; ComponentLink2Description: https://datasheet.octopart.com:443/UMK105CG121JV-F-Taiyo-Yuden-datasheet-154810152.pdf?src-supplier=JRH+Electronics; ComponentLink3URL: https://datasheet.octopart.com:443/UMK105CG121JV-F-Taiyo-Yuden-datasheet-8858600.pdf?src-supplier=JRH+Electronics; ComponentLink3Description: https://datasheet.octopart.com:443/UMK105CG121JV-F-Taiyo-Yuden-datasheet-8858600.pdf?src-supplier=JRH+Electronics; ComponentLink4URL: https://datasheet.octopart.com:443/UMK105CG121JV-F-Taiyo-Yuden-datasheet-8857305.pdf?src-supplier=Newark; ComponentLink4Description: https://datasheet.octopart.com:443/UMK105CG121JV-F-Taiyo-Yuden-datasheet-8857305.pdf?src-supplier=Newark; ComponentLink5URL: https://datasheet.octopart.com:443/UMK105CG121JV-F-Taiyo-Yuden-datasheet-10851928.pdf?src-supplier=Newark; ComponentLink5Description: https://datasheet.octopart.com:443/UMK105CG121JV-F-Taiyo-Yuden-datasheet-10851928.pdf?src-supplier=Newark; ComponentLink6URL: https://datasheet.octopart.com:443/UMK105CG121JV-F-Taiyo-Yuden-datasheet-8434558.pdf?src-supplier=Newark; ComponentLink6Description: https://datasheet.octopart.com:443/UMK105CG121JV-F-Taiyo-Yuden-datasheet-8434558.pdf?src-supplier=Newark; ComponentLink7URL: https://datasheet.octopart.com:443/UMK105CG121JV-F-Taiyo-Yuden-datasheet-182874648.pdf?src-supplier=Newark; ComponentLink7Description: https://datasheet.octopart.com:443/UMK105CG121JV-F-Taiyo-Yuden-datasheet-182874648.pdf?src-supplier=Newark; ComponentLink8URL: https://datasheet.octopart.com:443/UMK105CG121JV-F-Taiyo-Yuden-datasheet-41194858.pdf?src-supplier=Newark; ComponentLink8Description: https://datasheet.octopart.com:443/UMK105CG121JV-F-Taiyo-Yuden-datasheet-41194858.pdf?src-supplier=Newark; ComponentLink9URL: https://datasheet.octopart.com:443/UMK105CG121JV-F-Taiyo-Yuden-datasheet-140473435.pdf?src-supplier=Master+Electronics; ComponentLink9Description: https://datasheet.octopart.com:443/UMK105CG121JV-F-Taiyo-Yuden-datasheet-140473435.pdf?src-supplier=Master+Electronics; ComponentLink10URL: https://datasheet.octopart.com:443/UMK105CG121JV-F-Taiyo-Yuden-datasheet-13695304.pdf?src-supplier=Farnell; ComponentLink10Description: https://datasheet.octopart.com:443/UMK105CG121JV-F-Taiyo-Yuden-datasheet-13695304.pdf?src-supplier=Farnell; ComponentLink11URL: https://datasheet.octopart.com:443/UMK105CG121JV-F-Taiyo-Yuden-datasheet-10742123.pdf?src-supplier=Farnell; ComponentLink11Description: https://datasheet.octopart.com:443/UMK105CG121JV-F-Taiyo-Yuden-datasheet-10742123.pdf?src-supplier=Farnell; ComponentLink12URL: https://datasheet.octopart.com:443/UMK105CG121JV-F-Taiyo-Yuden-datasheet-10545600.pdf?src-supplier=Farnell; ComponentLink12Description: https://datasheet.octopart.com:443/UMK105CG121JV-F-Taiyo-Yuden-datasheet-10545600.pdf?src-supplier=Farnell; ComponentLink13URL: https://datasheet.octopart.com:443/UMK105CG121JV-F-Taiyo-Yuden-datasheet-10622963.pdf?src-supplier=Farnell; ComponentLink13Description: https://datasheet.octopart.com:443/UMK105CG121JV-F-Taiyo-Yuden-datasheet-10622963.pdf?src-supplier=Farnell; ComponentLink14URL: https://datasheet.octopart.com:443/UMK105CG121JV-F-Taiyo-Yuden-datasheet-10618026.pdf?src-supplier=Farnell; ComponentLink14Description: https://datasheet.octopart.com:443/UMK105CG121JV-F-Taiyo-Yuden-datasheet-10618026.pdf?src-supplier=Farnell; ComponentLink15URL: https://datasheet.octopart.com:443/UMK105CG121JV-F-Taiyo-Yuden-datasheet-10549048.pdf?src-supplier=Farnell; ComponentLink15Description: https://datasheet.octopart.com:443/UMK105CG121JV-F-Taiyo-Yuden-datasheet-10549048.pdf?src-supplier=Farnell; ComponentLink16URL: https://datasheet.octopart.com:443/UMK105CG121JV-F-Taiyo-Yuden-datasheet-10671320.pdf?src-supplier=Farnell; ComponentLink16Description: https://datasheet.octopart.com:443/UMK105CG121JV-F-Taiyo-Yuden-datasheet-10671320.pdf?src-supplier=Farnell; ComponentLink17URL: https://datasheet.octopart.com:443/UMK105CG121JV-F-Taiyo-Yuden-datasheet-10620942.pdf?src-supplier=Farnell; ComponentLink17Description: https://datasheet.octopart.com:443/UMK105CG121JV-F-Taiyo-Yuden-datasheet-10620942.pdf?src-supplier=Farnell; ComponentLink18URL: https://datasheet.octopart.com:443/UMK105CG121JV-F-Taiyo-Yuden-datasheet-10408854.pdf?src-supplier=Farnell; ComponentLink18Description: https://datasheet.octopart.com:443/UMK105CG121JV-F-Taiyo-Yuden-datasheet-10408854.pdf?src-supplier=Farnell; ComponentLink19URL: https://datasheet.octopart.com:443/UMK105CG121JV-F-Taiyo-Yuden-datasheet-10283011.pdf?src-supplier=Farnell; ComponentLink19Description: https://datasheet.octopart.com:443/UMK105CG121JV-F-Taiyo-Yuden-datasheet-10283011.pdf?src-supplier=Farnell; ComponentLink20URL: https://datasheet.octopart.com:443/UMK105CG121JV-F-Taiyo-Yuden-datasheet-10031713.pdf?src-supplier=Farnell; ComponentLink20Description: https://datasheet.octopart.com:443/UMK105CG121JV-F-Taiyo-Yuden-datasheet-10031713.pdf?src-supplier=Farnell; ComponentLink21URL: https://datasheet.octopart.com:443/UMK105CG121JV-F-Taiyo-Yuden-datasheet-10854574.pdf?src-supplier=Farnell; ComponentLink21Description: https://datasheet.octopart.com:443/UMK105CG121JV-F-Taiyo-Yuden-datasheet-10854574.pdf?src-supplier=Farnell; ComponentLink22URL: https://datasheet.octopart.com:443/UMK105CG121JV-F-Taiyo-Yuden-datasheet-8820216.pdf?src-supplier=Farnell; ComponentLink22Description: https://datasheet.octopart.com:443/UMK105CG121JV-F-Taiyo-Yuden-datasheet-8820216.pdf?src-supplier=Farnell; ComponentLink23URL: https://datasheet.octopart.com:443/UMK105CG121JV-F-Taiyo-Yuden-datasheet-119523.pdf?src-supplier=Farnell; ComponentLink23Description: https://datasheet.octopart.com:443/UMK105CG121JV-F-Taiyo-Yuden-datasheet-119523.pdf?src-supplier=Farnell; ComponentLink24URL: https://datasheet.octopart.com:443/UMK105CG121JV-F-Taiyo-Yuden-datasheet-120265.pdf?src-supplier=Farnell; ComponentLink24Description: https://datasheet.octopart.com:443/UMK105CG121JV-F-Taiyo-Yuden-datasheet-120265.pdf?src-supplier=Farnell; ComponentLink25URL: https://datasheet.octopart.com:443/UMK105CG121JV-F-Taiyo-Yuden-datasheet-5326109.pdf?src-supplier=Farnell; ComponentLink25Description: https://datasheet.octopart.com:443/UMK105CG121JV-F-Taiyo-Yuden-datasheet-5326109.pdf?src-supplier=Farnell; ComponentLink26URL: https://datasheet.octopart.com:443/UMK105CG121JV-F-Taiyo-Yuden-datasheet-118905.pdf?src-supplier=Farnell; ComponentLink26Description: https://datasheet.octopart.com:443/UMK105CG121JV-F-Taiyo-Yuden-datasheet-118905.pdf?src-supplier=Farnell; ComponentLink27URL: https://datasheet.octopart.com:443/UMK105CG121JV-F-Taiyo-Yuden-datasheet-1645.pdf?src-supplier=Farnell; ComponentLink27Description: https://datasheet.octopart.com:443/UMK105CG121JV-F-Taiyo-Yuden-datasheet-1645.pdf?src-supplier=Farnell; ComponentLink28URL: https://datasheet.octopart.com:443/UMK105CG121JV-F-Taiyo-Yuden-datasheet-138738940.pdf?src-supplier=Taiyo+Yuden+SCT; ComponentLink28Description: https://datasheet.octopart.com:443/UMK105CG121JV-F-Taiyo-Yuden-datasheet-138738940.pdf?src-supplier=Taiyo+Yuden+SCT; ComponentLink29URL: https://datasheet.octopart.com:443/UMK105CG121JV-F-Taiyo-Yuden-datasheet-97186031.pdf?src-supplier=Future+Electronics; ComponentLink29Description: https://datasheet.octopart.com:443/UMK105CG121JV-F-Taiyo-Yuden-datasheet-97186031.pdf?src-supplier=Future+Electronics; ComponentLink30URL: https://datasheet.octopart.com/UMK105CG121JV-F-Taiyo-Yuden-datasheet-17274794.pdf; ComponentLink30Description: https://datasheet.octopart.com/UMK105CG121JV-F-Taiyo-Yuden-datasheet-17274794.pdf
footprint CAP_0402 (CGA2B3X7R1H153K050BB)
pins: 1, 2

## XAL1010-562MEB
designator L?  value 5.6µH  (hidden comment: XAL1010-562MEB)
General Purpose Inductor, 5.6uH, 20%, 1 Element, Composite-Core, SMD, 4539; Manufacturer: Coilcraft; DC Resistance (DCR): 6.93mΩ; Max Current Rating: 21.2A; Number of Circuits: 1; Self Resonant Frequency: 16MHz; Shielding: Shielded; Test Frequency: 1MHz; Category: Fixed Inductors; Core Material: Composite; Country of Origin: Mainland China; Export Control Classification Number (ECCN) Code: EAR99; Harmonized Tariff Schedule (HTS) Code: 8504.50.80.00; Height: 10mm; Introduction Date: 2010-10-18; Lead Free: Contains Lead; Length: 11.3mm; Lifecycle Status: Obsolete; LTB Date: 2021-03-01; LTD Date: 2021-03-01; Manufacturer Part Number: XAL1010-562MEB; Max DC Current: 21.2A; Max Operating Temperature: 125°C; Min Operating Temperature: -40°C; Number of Terminals: 2; Ratings: AEC-Q200; REACH SVHC: Yes; RoHS: Compliant; Termination: SMD/SMT; Tolerance: 20%; Width: 10mm; DataSheet: https://eu.mouser.com/datasheet/3/995/1/xal1010.pdf; Supplier: Mouser
footprint XAL1010 (XAL1010-562MEB - Power Inductors - SMD 5.6uH Shld 20% 21.2A 6.93mOhms AECQ2)
pins: 1, 2

## XAL4020‑102
designator L?  value 1µH  (hidden comment: XAL4020‑102)
General Purpose Inductor, 1uH, 20%, 1 Element, Composite-Core, SMD, 1616; Manufacturer: Coilcraft; Manufacturer Part Number: XAL4020-102MEC; DC Resistance (DCR): 14.6mΩ; Max Current Rating: 9.6A; Number of Circuits: 1; Saturation Current: 8.7A; Self Resonant Frequency: 79MHz; Shielding: Shielded; Test Frequency: 1MHz; Supplier: Mouser; Supplier Part Number: 994-XAL4020-102MEC; RoHS: Compliant; Category: Fixed Inductors; Pricing: 1=2,19, 10=1,99, 50=1,92, 100=1,54, 1000=1,07, 10000=1,02 (USD); Ambient Temperature Range High: 125°C; Case/Package: 1616; Composition: Wirewound; Core Material: Composite; Country of Origin: Indonesia, Mainland China, Vietnam; Export Control Classification Number (ECCN) Code: EAR99; Height: 2.1mm; Harmonized Tariff Schedule (HTS) Code: 8504.50.80.00; Inductance Tolerance: 20%; Introduction Date: 2010-10-18; Lead Free: Contains Lead; Length: 4mm; Lifecycle Status: Production; Max DC Current: 9.6A; Max Operating Temperature: 125°C; Min Operating Temperature: -40°C; Number of Terminals: 2; Ratings: AEC-Q200; REACH SVHC: Yes; RMS Current (Irms): 9.6A; ESR: 14.6mΩ; Termination: SMD/SMT; Tolerance: 20%; Width: 4mm; ComponentLink1URL: https://datasheet.octopart.com:443/XAL4020-102MEC-Coilcraft-datasheet-180122003.pdf?src-supplier=IHS; ComponentLink1Description: https://datasheet.octopart.com:443/XAL4020-102MEC-Coilcraft-datasheet-180122003.pdf?src-supplier=IHS; ComponentLink2URL: https://datasheet.octopart.com:443/XAL4020-102MEC-Coilcraft-datasheet-138896143.pdf?src-supplier=Upverter; ComponentLink2Description: https://datasheet.octopart.com:443/XAL4020-102MEC-Coilcraft-datasheet-138896143.pdf?src-supplier=Upverter; ComponentLink3URL: https://datasheet.octopart.com:443/XAL4020-102MEC-Coilcraft-datasheet-10791550.pdf?src-supplier=Coilcraft+Direct; ComponentLink3Description: https://datasheet.octopart.com:443/XAL4020-102MEC-Coilcraft-datasheet-10791550.pdf?src-supplier=Coilcraft+Direct; ComponentLink4URL: https://datasheet.octopart.com:443/XAL4020-102MEC-Coilcraft-datasheet-14354380.pdf?src-supplier=Farnell; ComponentLink4Description: https://datasheet.octopart.com:443/XAL4020-102MEC-Coilcraft-datasheet-14354380.pdf?src-supplier=Farnell
footprint XAL4020
pins: 1, 2

## XAL5030‑222
designator L?  value 2.2µH  (hidden comment: XAL5030‑222)
General Purpose Inductor, 2.2uH, 20%, 1 Element, Composite-Core, SMD, 2221; Manufacturer: Coilcraft; Manufacturer Part Number: XAL5030-222MEC; DC Resistance (DCR): 14.5mΩ; Max Current Rating: 9.7A; Max DC Current: 9.2A; Number of Circuits: 1; RMS Current (Irms): 7.2A; Self Resonant Frequency: 38MHz; Shielding: Shielded; Test Frequency: 1MHz; Supplier: Farnell; Supplier Part Number: XAL5030-222MEC; RoHS: Compliant; Category: Fixed Inductors; Stock: 117; Pricing: 1=3,34, 10=2,85, 50=2,63, 100=1,96, 200=1,71, 400=1,45 (EUR); Ambient Temperature Range High: 125°C; Case/Package: SMD/SMT; Core Material: Composite; Country of Origin: Mainland China, Vietnam; Export Control Classification Number (ECCN) Code: EAR99; Height: 3.1mm; Harmonized Tariff Schedule (HTS) Code: 8504.50.80.00; Inductance Tolerance: 20%; Introduction Date: 2011-03-29; Lead Free: Contains Lead; Length: 5.48mm; Lifecycle Status: Production; Max Operating Temperature: 125°C; Min Operating Temperature: -40°C; Mounting Technology: Surface Mount; Number of Terminals: 2; Packaging: Cut Tape; Ratings: AEC-Q200; REACH SVHC: Yes; Saturation Current: 9.2A; ESR: 14.5mΩ; Termination: SMD/SMT; Tolerance: 20%; Width: 5.28mm; ComponentLink1URL: https://datasheet.octopart.com:443/XAL5030-222MEC-Coilcraft-datasheet-180122023.pdf?src-supplier=IHS; ComponentLink1Description: https://datasheet.octopart.com:443/XAL5030-222MEC-Coilcraft-datasheet-180122023.pdf?src-supplier=IHS; ComponentLink2URL: https://datasheet.octopart.com:443/XAL5030-222MEC-Coilcraft-datasheet-10792017.pdf?src-supplier=Coilcraft+Direct; ComponentLink2Description: https://datasheet.octopart.com:443/XAL5030-222MEC-Coilcraft-datasheet-10792017.pdf?src-supplier=Coilcraft+Direct; ComponentLink3URL: https://datasheet.octopart.com:443/XAL5030-222MEC-Coilcraft-datasheet-181955333.pdf?src-supplier=Newark; ComponentLink3Description: https://datasheet.octopart.com:443/XAL5030-222MEC-Coilcraft-datasheet-181955333.pdf?src-supplier=Newark; ComponentLink4URL: https://datasheet.octopart.com:443/XAL5030-222MEC-Coilcraft-datasheet-14354381.pdf?src-supplier=Newark; ComponentLink4Description: https://datasheet.octopart.com:443/XAL5030-222MEC-Coilcraft-datasheet-14354381.pdf?src-supplier=Newark
footprint XAL5030
pins: 1, 2

## XAL5030‑472
designator L?  value 4.7µH  (hidden comment: XAL5030‑472)
General Purpose Inductor, 4.7uH, 20%, 1 Element, Composite-Core, SMD, 2221; Manufacturer: Coilcraft; Manufacturer Part Number: XAL5030-472MEC; DC Resistance (DCR): 40mΩ; Max Current Rating: 5.9A; Number of Circuits: 1; Saturation Current: 6.7A; Self Resonant Frequency: 23MHz; Shielding: Shielded; Test Frequency: 1MHz; Supplier: Farnell; Supplier Part Number: XAL5030-472MEC; RoHS: Compliant; Category: Fixed Inductors; Pricing: 1=3,34, 10=2,85, 50=2,63, 100=1,96, 200=1,71, 400=1,45 (EUR); Case/Package: SMD/SMT; Core Material: Composite; Country of Origin: Mainland China, Vietnam; Export Control Classification Number (ECCN) Code: EAR99; Height: 3.1mm; Harmonized Tariff Schedule (HTS) Code: 8504.50.80.00; Inductance Tolerance: 20%; Introduction Date: 2011-03-29; Lead Free: Contains Lead; Length: 5.48mm; Lifecycle Status: Production; Max DC Current: 5.9A; Max Operating Temperature: 125°C; Min Operating Temperature: -40°C; Mounting Technology: Surface Mount; Number of Terminals: 2; Packaging: Cut Tape; Ratings: AEC-Q200; REACH SVHC: Yes; RMS Current (Irms): 5.9A; Termination: SMD/SMT; Tolerance: 20%; Width: 5.28mm; ComponentLink1URL: https://datasheet.octopart.com:443/XAL5030-472MEC-Coilcraft-datasheet-180122023.pdf?src-supplier=IHS; ComponentLink1Description: https://datasheet.octopart.com:443/XAL5030-472MEC-Coilcraft-datasheet-180122023.pdf?src-supplier=IHS; ComponentLink2URL: https://datasheet.octopart.com:443/XAL5030-472MEC-Coilcraft-datasheet-10792017.pdf?src-supplier=Coilcraft+Direct; ComponentLink2Description: https://datasheet.octopart.com:443/XAL5030-472MEC-Coilcraft-datasheet-10792017.pdf?src-supplier=Coilcraft+Direct; ComponentLink3URL: https://datasheet.octopart.com:443/XAL5030-472MEC-Coilcraft-datasheet-181955333.pdf?src-supplier=Newark; ComponentLink3Description: https://datasheet.octopart.com:443/XAL5030-472MEC-Coilcraft-datasheet-181955333.pdf?src-supplier=Newark; ComponentLink4URL: https://datasheet.octopart.com:443/XAL5030-472MEC-Coilcraft-datasheet-14354381.pdf?src-supplier=Newark; ComponentLink4Description: https://datasheet.octopart.com:443/XAL5030-472MEC-Coilcraft-datasheet-14354381.pdf?src-supplier=Newark
footprint XAL5030
pins: 1, 2

## XAL6060-472MEB
designator L?  value 4.7µH  (hidden comment: XAL6060-472MEB)
Güç İndüktörleri - SMD 4.7uH Shld 20% 11A 14.4mOhms AECQ2; Manufacturer: Coilcraft; Core Material: Composite; DC Resistance (DCR): 14.4mΩ; Number of Circuits: 1; Self Resonant Frequency: 21MHz; Shielding: Shielded; Test Frequency: 1MHz; Category: Fixed Inductors; Country of Origin: Indonesia, Mainland China, Vietnam; Export Control Classification Number (ECCN) Code: EAR99; Harmonized Tariff Schedule (HTS) Code: 8504.50.80.00; Height: 6.1mm; Introduction Date: 2011-03-29; Lead Free: Contains Lead; Length: 6.56mm; Lifecycle Status: Obsolete; LTB Date: 2021-03-01; LTD Date: 2021-03-01; Manufacturer Part Number: XAL6060-472MEB; Max Current Rating: 11A; Max DC Current: 11A; Max Operating Temperature: 125°C; Min Operating Temperature: -40°C; Number of Terminals: 2; Ratings: AEC-Q200; REACH SVHC: Yes; RoHS: Compliant; Termination: SMD/SMT; Tolerance: 20%; Width: 6.36mm
footprint XAL6060 (Güç İndüktörleri - SMD 4.7uH Shld 20% 11A 14.4mOhms AECQ2)
pins: 1, 2